# EAGLE library part 23LC1024 (library 3DPOV)
Microchip 1 MBit SPI Serial NVSRAM with SDI and SQI Interface
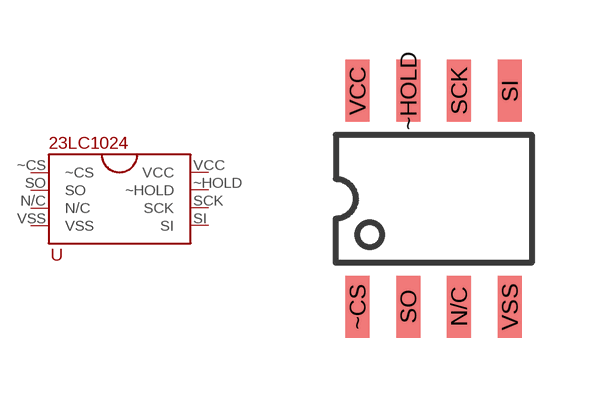
[diagram p5: symbol with the pads of SOIC8-I_SC; footprint SOIC8-I_SC]

Designator prefix -

## 23LC1024  [SOIC8-I_SC]
N/C  N/C  nc
SCK  SCK  in
SI  SI  in
SO  SO  out
VCC  VCC  pwr
VSS  VSS
~CS  ~CS  in
~HOLD  ~HOLD  in

## Footprint SOIC8-I_SC (pad centres in mm)
smd 0.6 x 1.55: N/C 0.635,-2.7; SCK 0.635,2.7; SI 1.905,2.7; SO -0.635,-2.7; VCC -1.905,2.7; VSS 1.905,-2.7; ~CS -1.905,-2.7; ~HOLD -0.635,2.7